# EAGLE library part MICROUSB1 (library MICROUSB1)
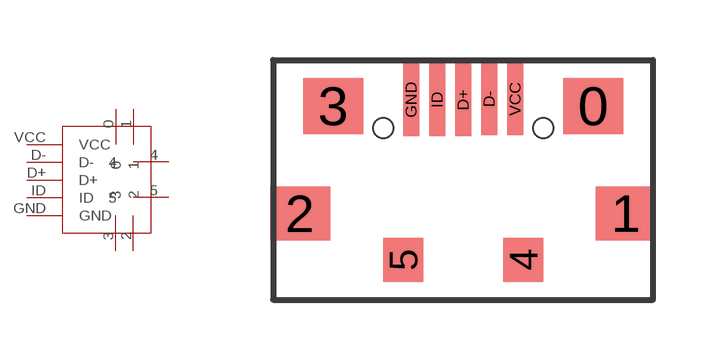
[diagram p0: symbol with the pads of MICROUSB1; footprint MICROUSB1]

Designator prefix MICROUSB1

## MICROUSB1  [MICROUSB1]
0  0
1  1
2  2
3  3
4  4
5  5
D+  D+
D-  D-
GND  GND
ID  ID
VCC  VCC

## Footprint MICROUSB1 (pad centres in mm)
smd 1.5 x 1.4: 0 8,4.85; 3 1.5,4.85
smd 1.5 x 1.35: 1 8.815,2.16; 2 0.67,2.155
smd 1 x 1.1: 4 6.25,1; 5 3.25,1
smd 0.4 x 1.8: D+ 4.75,5; D- 5.4,5.02; GND 3.45,5; ID 4.1,5; VCC 6.05,5.02
hole 0.5 at 2.75,4.3
hole 0.5 at 6.75,4.3